# EAGLE library part 87264-14_S (library con-molex-milli-grid)
RECEPTACAL
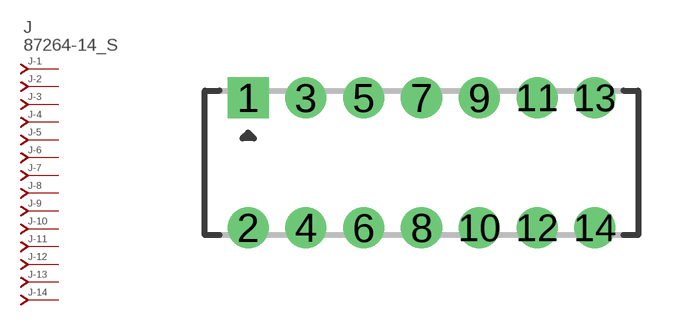
[diagram p286: symbol with the pads of 87264-14; footprint 87264-14]

Designator prefix J; gates -1=J-NV -2=J-N -3=J-N -4=J-N -5=J-N -6=J-N -7=J-N -8=J-N -9=J-N -10=J-N -11=J-N -12=J-N -13=J-N -14=J-N

## 87264-14_S  [87264-14]
1  -1:J  pas
2  -2:J  pas
3  -3:J  pas
4  -4:J  pas
5  -5:J  pas
6  -6:J  pas
7  -7:J  pas
8  -8:J  pas
9  -9:J  pas
10  -10:J  pas
11  -11:J  pas
12  -12:J  pas
13  -13:J  pas
14  -14:J  pas

## Footprint 87264-14 (pad centres in mm)
RECEPTACAL Dual Row, Side Entry
drill 0.914 square: 1 -6,2.25
drill 0.914: 2 -6,-2.25; 3 -4,2.25; 4 -4,-2.25; 5 -2,2.25; 6 -2,-2.25; 7 0,2.25; 8 0,-2.25; 9 2,2.25; 10 2,-2.25; 11 4,2.25; 12 4,-2.25; 13 6,2.25; 14 6,-2.25